# Altium footprint library Connector_PinHeader_2.00mm.PcbLib: 278 footprints (part 16 of 18)
Each footprint in its own frame and in the unit in brackets; x right, y up, seen from the top. Pads: shape width x height; smd on the part's side, far side on the other; paste and mask are expansions set on the pad; w line width, h text height; cw(c..) or ccw(c..) is an arc to the next point about the centre after c.
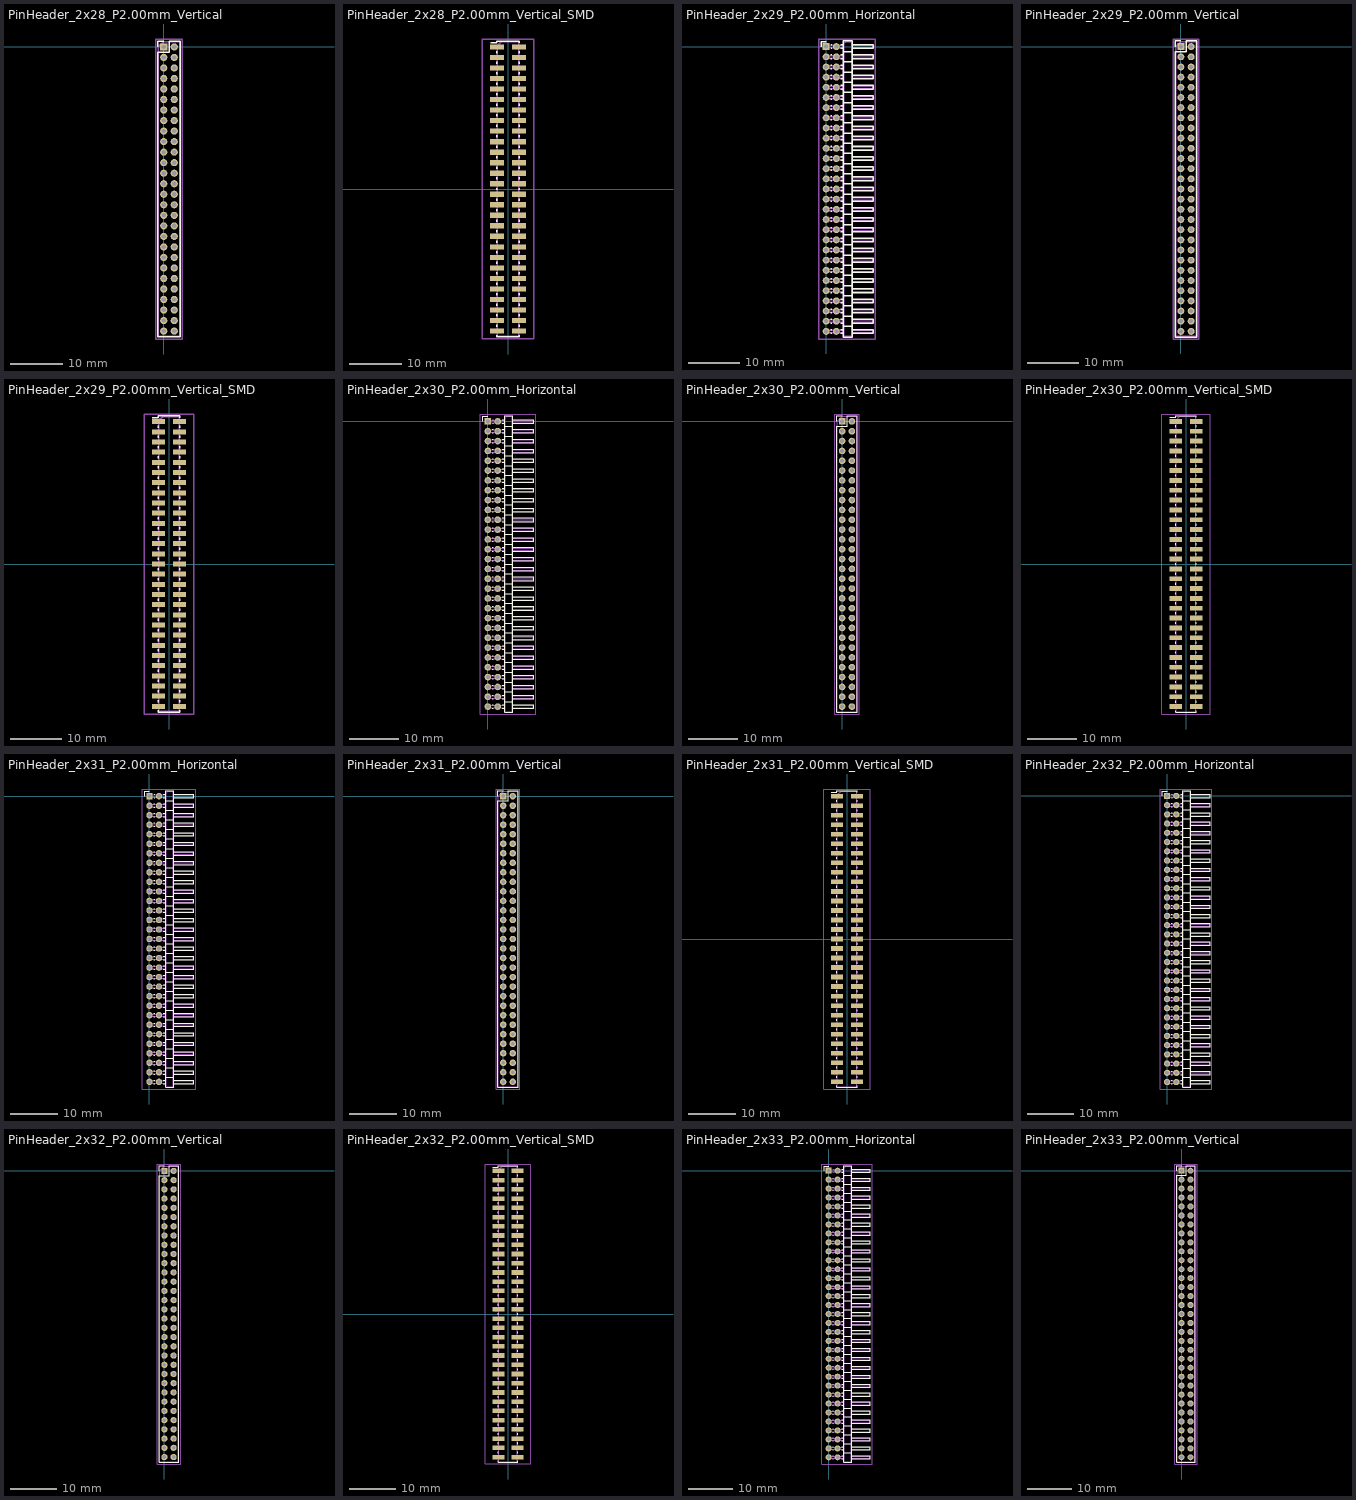
[diagram p15: the footprints below, top view; thin cyan lines are the x and y axes]

## PinHeader_2x28_P2.00mm_Vertical [mm]
pads (56):
  rect 1.35x1.35 hole 0.8: 1(0,0)
  round 1.35 hole 0.8: 2(2,0) 3(0,-2) 4(2,-2) 5(0,-4) 6(2,-4) 7(0,-6) 8(2,-6) 9(0,-8) 10(2,-8) 11(0,-10) 12(2,-10) 13(0,-12) 14(2,-12) 15(0,-14) 16(2,-14) 17(0,-16) 18(2,-16) 19(0,-18) 20(2,-18) 21(0,-20) 22(2,-20) 23(0,-22) 24(2,-22) 25(0,-24) 26(2,-24) 27(0,-26) 28(2,-26) 29(0,-28) 30(2,-28) 31(0,-30) 32(2,-30) 33(0,-32) 34(2,-32) 35(0,-34) 36(2,-34) 37(0,-36) 38(2,-36) 39(0,-38) 40(2,-38) 41(0,-40) 42(2,-40) 43(0,-42) 44(2,-42) 45(0,-44) 46(2,-44) 47(0,-46) 48(2,-46) 49(0,-48) 50(2,-48) 51(0,-50) 52(2,-50) 53(0,-52) 54(2,-52) 55(0,-54) 56(2,-54)
F.SilkS:
  lines w0.254: -1.11,0 -1.11,1.11 0,1.11 ; -1.11,-55.11 3.11,-55.11 3.11,1.11 1,1.11 1,-1 -1.11,-1 -1.11,-55.11
Top Assembly:
  lines w0.254: -1,-55 3,-55 3,1 0,1 -1,0 -1,-55
  text "'.Designator'" at 1.84,-31.047 h1
Top Courtyard:
  lines w0.254: -1.5,-55.5 3.5,-55.5 3.5,1.5 -1.5,1.5 -1.5,-55.5
Top Designator:
  text ".Designator" at -6.618,-27.508 h1.52

## PinHeader_2x28_P2.00mm_Vertical_SMD [mm]
pads (56):
  rect 2.58x1 smd: 1(-2.085,27) 2(2.085,27) 3(-2.085,25) 4(2.085,25) 5(-2.085,23) 6(2.085,23) 7(-2.085,21) 8(2.085,21) 9(-2.085,19) 10(2.085,19) 11(-2.085,17) 12(2.085,17) 13(-2.085,15) 14(2.085,15) 15(-2.085,13) 16(2.085,13) 17(-2.085,11) 18(2.085,11) 19(-2.085,9) 20(2.085,9) 21(-2.085,7) 22(2.085,7) 23(-2.085,5) 24(2.085,5) 25(-2.085,3) 26(2.085,3) 27(-2.085,1) 28(2.085,1) 29(-2.085,-1) 30(2.085,-1) 31(-2.085,-3) 32(2.085,-3) 33(-2.085,-5) 34(2.085,-5) 35(-2.085,-7) 36(2.085,-7) 37(-2.085,-9) 38(2.085,-9) 39(-2.085,-11) 40(2.085,-11) 41(-2.085,-13) 42(2.085,-13) 43(-2.085,-15) 44(2.085,-15) 45(-2.085,-17) 46(2.085,-17) 47(-2.085,-19) 48(2.085,-19) 49(-2.085,-21) 50(2.085,-21) 51(-2.085,-23) 52(2.085,-23) 53(-2.085,-25) 54(2.085,-25) 55(-2.085,-27) 56(2.085,-27)
F.SilkS:
  lines w0.254: -3.315,27.81 -2.11,27.81 -2.11,28.11 2.11,28.11 2.11,27.81 ; -2.11,-27.81 -2.11,-28.11 2.11,-28.11 2.11,-27.81 ; -2.11,-26.19 -2.11,-25.81 ; -2.11,-24.19 -2.11,-23.81 ; -2.11,-22.19 -2.11,-21.81 ; -2.11,-20.19 -2.11,-19.81 ; -2.11,-18.19 -2.11,-17.81 ; -2.11,-16.19 -2.11,-15.81 ; -2.11,-14.19 -2.11,-13.81 ; -2.11,-12.19 -2.11,-11.81 ; -2.11,-10.19 -2.11,-9.81 ; -2.11,-8.19 -2.11,-7.81 ; -2.11,-6.19 -2.11,-5.81 ; -2.11,-4.19 -2.11,-3.81 ; -2.11,-2.19 -2.11,-1.81 ; -2.11,-0.19 -2.11,0.19 ; -2.11,1.81 -2.11,2.19 ; -2.11,3.81 -2.11,4.19 ; -2.11,5.81 -2.11,6.19 ; -2.11,7.81 -2.11,8.19 ; -2.11,9.81 -2.11,10.19 ; -2.11,11.81 -2.11,12.19 ; -2.11,13.81 -2.11,14.19 ; -2.11,15.81 -2.11,16.19 ; -2.11,17.81 -2.11,18.19 ; -2.11,19.81 -2.11,20.19 ; -2.11,21.81 -2.11,22.19 ; -2.11,23.81 -2.11,24.19 ; -2.11,25.81 -2.11,26.19 ; 2.11,-26.19 2.11,-25.81 ; 2.11,-24.19 2.11,-23.81 ; 2.11,-22.19 2.11,-21.81 ; 2.11,-20.19 2.11,-19.81 ; 2.11,-18.19 2.11,-17.81 ; 2.11,-16.19 2.11,-15.81 ; 2.11,-14.19 2.11,-13.81 ; 2.11,-12.19 2.11,-11.81 ; 2.11,-10.19 2.11,-9.81 ; 2.11,-8.19 2.11,-7.81 ; 2.11,-6.19 2.11,-5.81 ; 2.11,-4.19 2.11,-3.81 ; 2.11,-2.19 2.11,-1.81 ; 2.11,-0.19 2.11,0.19 ; 2.11,1.81 2.11,2.19 ; 2.11,3.81 2.11,4.19 ; 2.11,5.81 2.11,6.19 ; 2.11,7.81 2.11,8.19 ; 2.11,9.81 2.11,10.19 ; 2.11,11.81 2.11,12.19 ; 2.11,13.81 2.11,14.19 ; 2.11,15.81 2.11,16.19 ; 2.11,17.81 2.11,18.19 ; 2.11,19.81 2.11,20.19 ; 2.11,21.81 2.11,22.19 ; 2.11,23.81 2.11,24.19 ; 2.11,25.81 2.11,26.19
Top Assembly:
  drawing of 173 lines, arcs and shapes, not listed
  text "'.Designator'" at 0.84,-4.047 h1
Top Courtyard:
  lines w0.254: -4.88,-28.5 4.88,-28.5 4.88,28.5 -4.88,28.5 -4.88,-28.5
Top Designator:
  text ".Designator" at -7.618,-0.508 h1.52

## PinHeader_2x29_P2.00mm_Horizontal [mm]
pads (58):
  rect 1.35x1.35 hole 0.8: 1(0,0)
  round 1.35 hole 0.8: 2(2,0) 3(0,-2) 4(2,-2) 5(0,-4) 6(2,-4) 7(0,-6) 8(2,-6) 9(0,-8) 10(2,-8) 11(0,-10) 12(2,-10) 13(0,-12) 14(2,-12) 15(0,-14) 16(2,-14) 17(0,-16) 18(2,-16) 19(0,-18) 20(2,-18) 21(0,-20) 22(2,-20) 23(0,-22) 24(2,-22) 25(0,-24) 26(2,-24) 27(0,-26) 28(2,-26) 29(0,-28) 30(2,-28) 31(0,-30) 32(2,-30) 33(0,-32) 34(2,-32) 35(0,-34) 36(2,-34) 37(0,-36) 38(2,-36) 39(0,-38) 40(2,-38) 41(0,-40) 42(2,-40) 43(0,-42) 44(2,-42) 45(0,-44) 46(2,-44) 47(0,-46) 48(2,-46) 49(0,-48) 50(2,-48) 51(0,-50) 52(2,-50) 53(0,-52) 54(2,-52) 55(0,-54) 56(2,-54) 57(0,-56) 58(2,-56)
F.SilkS:
  drawing of 238 lines, arcs and shapes, not listed
Top Assembly:
  drawing of 179 lines, arcs and shapes, not listed
  text "'.Designator'" at 5.006,-31.642 h0.9
Top Courtyard:
  lines w0.254: -1.5,-57.5 9.7,-57.5 9.7,1.5 -1.5,1.5 -1.5,-57.5
Top Designator:
  text ".Designator" at -3.518,-28.508 h1.52

## PinHeader_2x29_P2.00mm_Vertical [mm]
pads (58):
  rect 1.35x1.35 hole 0.8: 1(0,0)
  round 1.35 hole 0.8: 2(2,0) 3(0,-2) 4(2,-2) 5(0,-4) 6(2,-4) 7(0,-6) 8(2,-6) 9(0,-8) 10(2,-8) 11(0,-10) 12(2,-10) 13(0,-12) 14(2,-12) 15(0,-14) 16(2,-14) 17(0,-16) 18(2,-16) 19(0,-18) 20(2,-18) 21(0,-20) 22(2,-20) 23(0,-22) 24(2,-22) 25(0,-24) 26(2,-24) 27(0,-26) 28(2,-26) 29(0,-28) 30(2,-28) 31(0,-30) 32(2,-30) 33(0,-32) 34(2,-32) 35(0,-34) 36(2,-34) 37(0,-36) 38(2,-36) 39(0,-38) 40(2,-38) 41(0,-40) 42(2,-40) 43(0,-42) 44(2,-42) 45(0,-44) 46(2,-44) 47(0,-46) 48(2,-46) 49(0,-48) 50(2,-48) 51(0,-50) 52(2,-50) 53(0,-52) 54(2,-52) 55(0,-54) 56(2,-54) 57(0,-56) 58(2,-56)
F.SilkS:
  lines w0.254: -1.11,0 -1.11,1.11 0,1.11 ; -1.11,-57.11 3.11,-57.11 3.11,1.11 1,1.11 1,-1 -1.11,-1 -1.11,-57.11
Top Assembly:
  lines w0.254: -1,-57 3,-57 3,1 0,1 -1,0 -1,-57
  text "'.Designator'" at 1.84,-32.047 h1
Top Courtyard:
  lines w0.254: -1.5,-57.5 3.5,-57.5 3.5,1.5 -1.5,1.5 -1.5,-57.5
Top Designator:
  text ".Designator" at -6.618,-28.508 h1.52

## PinHeader_2x29_P2.00mm_Vertical_SMD [mm]
pads (58):
  rect 2.58x1 smd: 1(-2.085,28) 2(2.085,28) 3(-2.085,26) 4(2.085,26) 5(-2.085,24) 6(2.085,24) 7(-2.085,22) 8(2.085,22) 9(-2.085,20) 10(2.085,20) 11(-2.085,18) 12(2.085,18) 13(-2.085,16) 14(2.085,16) 15(-2.085,14) 16(2.085,14) 17(-2.085,12) 18(2.085,12) 19(-2.085,10) 20(2.085,10) 21(-2.085,8) 22(2.085,8) 23(-2.085,6) 24(2.085,6) 25(-2.085,4) 26(2.085,4) 27(-2.085,2) 28(2.085,2) 29(-2.085,0) 30(2.085,0) 31(-2.085,-2) 32(2.085,-2) 33(-2.085,-4) 34(2.085,-4) 35(-2.085,-6) 36(2.085,-6) 37(-2.085,-8) 38(2.085,-8) 39(-2.085,-10) 40(2.085,-10) 41(-2.085,-12) 42(2.085,-12) 43(-2.085,-14) 44(2.085,-14) 45(-2.085,-16) 46(2.085,-16) 47(-2.085,-18) 48(2.085,-18) 49(-2.085,-20) 50(2.085,-20) 51(-2.085,-22) 52(2.085,-22) 53(-2.085,-24) 54(2.085,-24) 55(-2.085,-26) 56(2.085,-26) 57(-2.085,-28) 58(2.085,-28)
F.SilkS:
  lines w0.254: -3.315,28.81 -2.11,28.81 -2.11,29.11 2.11,29.11 2.11,28.81 ; -2.11,-28.81 -2.11,-29.11 2.11,-29.11 2.11,-28.81 ; -2.11,-27.19 -2.11,-26.81 ; -2.11,-25.19 -2.11,-24.81 ; -2.11,-23.19 -2.11,-22.81 ; -2.11,-21.19 -2.11,-20.81 ; -2.11,-19.19 -2.11,-18.81 ; -2.11,-17.19 -2.11,-16.81 ; -2.11,-15.19 -2.11,-14.81 ; -2.11,-13.19 -2.11,-12.81 ; -2.11,-11.19 -2.11,-10.81 ; -2.11,-9.19 -2.11,-8.81 ; -2.11,-7.19 -2.11,-6.81 ; -2.11,-5.19 -2.11,-4.81 ; -2.11,-3.19 -2.11,-2.81 ; -2.11,-1.19 -2.11,-0.81 ; -2.11,0.81 -2.11,1.19 ; -2.11,2.81 -2.11,3.19 ; -2.11,4.81 -2.11,5.19 ; -2.11,6.81 -2.11,7.19 ; -2.11,8.81 -2.11,9.19 ; -2.11,10.81 -2.11,11.19 ; -2.11,12.81 -2.11,13.19 ; -2.11,14.81 -2.11,15.19 ; -2.11,16.81 -2.11,17.19 ; -2.11,18.81 -2.11,19.19 ; -2.11,20.81 -2.11,21.19 ; -2.11,22.81 -2.11,23.19 ; -2.11,24.81 -2.11,25.19 ; -2.11,26.81 -2.11,27.19 ; 2.11,-27.19 2.11,-26.81 ; 2.11,-25.19 2.11,-24.81 ; 2.11,-23.19 2.11,-22.81 ; 2.11,-21.19 2.11,-20.81 ; 2.11,-19.19 2.11,-18.81 ; 2.11,-17.19 2.11,-16.81 ; 2.11,-15.19 2.11,-14.81 ; 2.11,-13.19 2.11,-12.81 ; 2.11,-11.19 2.11,-10.81 ; 2.11,-9.19 2.11,-8.81 ; 2.11,-7.19 2.11,-6.81 ; 2.11,-5.19 2.11,-4.81 ; 2.11,-3.19 2.11,-2.81 ; 2.11,-1.19 2.11,-0.81 ; 2.11,0.81 2.11,1.19 ; 2.11,2.81 2.11,3.19 ; 2.11,4.81 2.11,5.19 ; 2.11,6.81 2.11,7.19 ; 2.11,8.81 2.11,9.19 ; 2.11,10.81 2.11,11.19 ; 2.11,12.81 2.11,13.19 ; 2.11,14.81 2.11,15.19 ; 2.11,16.81 2.11,17.19 ; 2.11,18.81 2.11,19.19 ; 2.11,20.81 2.11,21.19 ; 2.11,22.81 2.11,23.19 ; 2.11,24.81 2.11,25.19 ; 2.11,26.81 2.11,27.19
Top Assembly:
  drawing of 179 lines, arcs and shapes, not listed
  text "'.Designator'" at 0.84,-4.047 h1
Top Courtyard:
  lines w0.254: -4.88,-29.5 4.88,-29.5 4.88,29.5 -4.88,29.5 -4.88,-29.5
Top Designator:
  text ".Designator" at -7.618,-0.508 h1.52

## PinHeader_2x30_P2.00mm_Horizontal [mm]
pads (60):
  rect 1.35x1.35 hole 0.8: 1(0,0)
  round 1.35 hole 0.8: 2(2,0) 3(0,-2) 4(2,-2) 5(0,-4) 6(2,-4) 7(0,-6) 8(2,-6) 9(0,-8) 10(2,-8) 11(0,-10) 12(2,-10) 13(0,-12) 14(2,-12) 15(0,-14) 16(2,-14) 17(0,-16) 18(2,-16) 19(0,-18) 20(2,-18) 21(0,-20) 22(2,-20) 23(0,-22) 24(2,-22) 25(0,-24) 26(2,-24) 27(0,-26) 28(2,-26) 29(0,-28) 30(2,-28) 31(0,-30) 32(2,-30) 33(0,-32) 34(2,-32) 35(0,-34) 36(2,-34) 37(0,-36) 38(2,-36) 39(0,-38) 40(2,-38) 41(0,-40) 42(2,-40) 43(0,-42) 44(2,-42) 45(0,-44) 46(2,-44) 47(0,-46) 48(2,-46) 49(0,-48) 50(2,-48) 51(0,-50) 52(2,-50) 53(0,-52) 54(2,-52) 55(0,-54) 56(2,-54) 57(0,-56) 58(2,-56) 59(0,-58) 60(2,-58)
F.SilkS:
  drawing of 246 lines, arcs and shapes, not listed
Top Assembly:
  drawing of 185 lines, arcs and shapes, not listed
  text "'.Designator'" at 5.006,-32.642 h0.9
Top Courtyard:
  lines w0.254: -1.5,-59.5 9.7,-59.5 9.7,1.5 -1.5,1.5 -1.5,-59.5
Top Designator:
  text ".Designator" at -3.518,-29.508 h1.52

## PinHeader_2x30_P2.00mm_Vertical [mm]
pads (60):
  rect 1.35x1.35 hole 0.8: 1(0,0)
  round 1.35 hole 0.8: 2(2,0) 3(0,-2) 4(2,-2) 5(0,-4) 6(2,-4) 7(0,-6) 8(2,-6) 9(0,-8) 10(2,-8) 11(0,-10) 12(2,-10) 13(0,-12) 14(2,-12) 15(0,-14) 16(2,-14) 17(0,-16) 18(2,-16) 19(0,-18) 20(2,-18) 21(0,-20) 22(2,-20) 23(0,-22) 24(2,-22) 25(0,-24) 26(2,-24) 27(0,-26) 28(2,-26) 29(0,-28) 30(2,-28) 31(0,-30) 32(2,-30) 33(0,-32) 34(2,-32) 35(0,-34) 36(2,-34) 37(0,-36) 38(2,-36) 39(0,-38) 40(2,-38) 41(0,-40) 42(2,-40) 43(0,-42) 44(2,-42) 45(0,-44) 46(2,-44) 47(0,-46) 48(2,-46) 49(0,-48) 50(2,-48) 51(0,-50) 52(2,-50) 53(0,-52) 54(2,-52) 55(0,-54) 56(2,-54) 57(0,-56) 58(2,-56) 59(0,-58) 60(2,-58)
F.SilkS:
  lines w0.254: -1.11,0 -1.11,1.11 0,1.11 ; -1.11,-59.11 3.11,-59.11 3.11,1.11 1,1.11 1,-1 -1.11,-1 -1.11,-59.11
Top Assembly:
  lines w0.254: -1,-59 3,-59 3,1 0,1 -1,0 -1,-59
  text "'.Designator'" at 1.84,-33.047 h1
Top Courtyard:
  lines w0.254: -1.5,-59.5 3.5,-59.5 3.5,1.5 -1.5,1.5 -1.5,-59.5
Top Designator:
  text ".Designator" at -6.618,-29.508 h1.52

## PinHeader_2x30_P2.00mm_Vertical_SMD [mm]
pads (60):
  rect 2.58x1 smd: 1(-2.085,29) 2(2.085,29) 3(-2.085,27) 4(2.085,27) 5(-2.085,25) 6(2.085,25) 7(-2.085,23) 8(2.085,23) 9(-2.085,21) 10(2.085,21) 11(-2.085,19) 12(2.085,19) 13(-2.085,17) 14(2.085,17) 15(-2.085,15) 16(2.085,15) 17(-2.085,13) 18(2.085,13) 19(-2.085,11) 20(2.085,11) 21(-2.085,9) 22(2.085,9) 23(-2.085,7) 24(2.085,7) 25(-2.085,5) 26(2.085,5) 27(-2.085,3) 28(2.085,3) 29(-2.085,1) 30(2.085,1) 31(-2.085,-1) 32(2.085,-1) 33(-2.085,-3) 34(2.085,-3) 35(-2.085,-5) 36(2.085,-5) 37(-2.085,-7) 38(2.085,-7) 39(-2.085,-9) 40(2.085,-9) 41(-2.085,-11) 42(2.085,-11) 43(-2.085,-13) 44(2.085,-13) 45(-2.085,-15) 46(2.085,-15) 47(-2.085,-17) 48(2.085,-17) 49(-2.085,-19) 50(2.085,-19) 51(-2.085,-21) 52(2.085,-21) 53(-2.085,-23) 54(2.085,-23) 55(-2.085,-25) 56(2.085,-25) 57(-2.085,-27) 58(2.085,-27) 59(-2.085,-29) 60(2.085,-29)
F.SilkS:
  lines w0.254: -3.315,29.81 -2.11,29.81 -2.11,30.11 2.11,30.11 2.11,29.81 ; -2.11,-29.81 -2.11,-30.11 2.11,-30.11 2.11,-29.81 ; -2.11,-28.19 -2.11,-27.81 ; -2.11,-26.19 -2.11,-25.81 ; -2.11,-24.19 -2.11,-23.81 ; -2.11,-22.19 -2.11,-21.81 ; -2.11,-20.19 -2.11,-19.81 ; -2.11,-18.19 -2.11,-17.81 ; -2.11,-16.19 -2.11,-15.81 ; -2.11,-14.19 -2.11,-13.81 ; -2.11,-12.19 -2.11,-11.81 ; -2.11,-10.19 -2.11,-9.81 ; -2.11,-8.19 -2.11,-7.81 ; -2.11,-6.19 -2.11,-5.81 ; -2.11,-4.19 -2.11,-3.81 ; -2.11,-2.19 -2.11,-1.81 ; -2.11,-0.19 -2.11,0.19 ; -2.11,1.81 -2.11,2.19 ; -2.11,3.81 -2.11,4.19 ; -2.11,5.81 -2.11,6.19 ; -2.11,7.81 -2.11,8.19 ; -2.11,9.81 -2.11,10.19 ; -2.11,11.81 -2.11,12.19 ; -2.11,13.81 -2.11,14.19 ; -2.11,15.81 -2.11,16.19 ; -2.11,17.81 -2.11,18.19 ; -2.11,19.81 -2.11,20.19 ; -2.11,21.81 -2.11,22.19 ; -2.11,23.81 -2.11,24.19 ; -2.11,25.81 -2.11,26.19 ; -2.11,27.81 -2.11,28.19 ; 2.11,-28.19 2.11,-27.81 ; 2.11,-26.19 2.11,-25.81 ; 2.11,-24.19 2.11,-23.81 ; 2.11,-22.19 2.11,-21.81 ; 2.11,-20.19 2.11,-19.81 ; 2.11,-18.19 2.11,-17.81 ; 2.11,-16.19 2.11,-15.81 ; 2.11,-14.19 2.11,-13.81 ; 2.11,-12.19 2.11,-11.81 ; 2.11,-10.19 2.11,-9.81 ; 2.11,-8.19 2.11,-7.81 ; 2.11,-6.19 2.11,-5.81 ; 2.11,-4.19 2.11,-3.81 ; 2.11,-2.19 2.11,-1.81 ; 2.11,-0.19 2.11,0.19 ; 2.11,1.81 2.11,2.19 ; 2.11,3.81 2.11,4.19 ; 2.11,5.81 2.11,6.19 ; 2.11,7.81 2.11,8.19 ; 2.11,9.81 2.11,10.19 ; 2.11,11.81 2.11,12.19 ; 2.11,13.81 2.11,14.19 ; 2.11,15.81 2.11,16.19 ; 2.11,17.81 2.11,18.19 ; 2.11,19.81 2.11,20.19 ; 2.11,21.81 2.11,22.19 ; 2.11,23.81 2.11,24.19 ; 2.11,25.81 2.11,26.19 ; 2.11,27.81 2.11,28.19
Top Assembly:
  drawing of 185 lines, arcs and shapes, not listed
  text "'.Designator'" at 0.84,-4.047 h1
Top Courtyard:
  lines w0.254: -4.88,-30.5 4.88,-30.5 4.88,30.5 -4.88,30.5 -4.88,-30.5
Top Designator:
  text ".Designator" at -7.618,-0.508 h1.52

## PinHeader_2x31_P2.00mm_Horizontal [mm]
pads (62):
  rect 1.35x1.35 hole 0.8: 1(0,0)
  round 1.35 hole 0.8: 2(2,0) 3(0,-2) 4(2,-2) 5(0,-4) 6(2,-4) 7(0,-6) 8(2,-6) 9(0,-8) 10(2,-8) 11(0,-10) 12(2,-10) 13(0,-12) 14(2,-12) 15(0,-14) 16(2,-14) 17(0,-16) 18(2,-16) 19(0,-18) 20(2,-18) 21(0,-20) 22(2,-20) 23(0,-22) 24(2,-22) 25(0,-24) 26(2,-24) 27(0,-26) 28(2,-26) 29(0,-28) 30(2,-28) 31(0,-30) 32(2,-30) 33(0,-32) 34(2,-32) 35(0,-34) 36(2,-34) 37(0,-36) 38(2,-36) 39(0,-38) 40(2,-38) 41(0,-40) 42(2,-40) 43(0,-42) 44(2,-42) 45(0,-44) 46(2,-44) 47(0,-46) 48(2,-46) 49(0,-48) 50(2,-48) 51(0,-50) 52(2,-50) 53(0,-52) 54(2,-52) 55(0,-54) 56(2,-54) 57(0,-56) 58(2,-56) 59(0,-58) 60(2,-58) 61(0,-60) 62(2,-60)
F.SilkS:
  drawing of 254 lines, arcs and shapes, not listed
Top Assembly:
  drawing of 191 lines, arcs and shapes, not listed
  text "'.Designator'" at 5.006,-33.642 h0.9
Top Courtyard:
  lines w0.254: -1.5,-61.5 9.7,-61.5 9.7,1.5 -1.5,1.5 -1.5,-61.5
Top Designator:
  text ".Designator" at -3.518,-30.508 h1.52

## PinHeader_2x31_P2.00mm_Vertical [mm]
pads (62):
  rect 1.35x1.35 hole 0.8: 1(0,0)
  round 1.35 hole 0.8: 2(2,0) 3(0,-2) 4(2,-2) 5(0,-4) 6(2,-4) 7(0,-6) 8(2,-6) 9(0,-8) 10(2,-8) 11(0,-10) 12(2,-10) 13(0,-12) 14(2,-12) 15(0,-14) 16(2,-14) 17(0,-16) 18(2,-16) 19(0,-18) 20(2,-18) 21(0,-20) 22(2,-20) 23(0,-22) 24(2,-22) 25(0,-24) 26(2,-24) 27(0,-26) 28(2,-26) 29(0,-28) 30(2,-28) 31(0,-30) 32(2,-30) 33(0,-32) 34(2,-32) 35(0,-34) 36(2,-34) 37(0,-36) 38(2,-36) 39(0,-38) 40(2,-38) 41(0,-40) 42(2,-40) 43(0,-42) 44(2,-42) 45(0,-44) 46(2,-44) 47(0,-46) 48(2,-46) 49(0,-48) 50(2,-48) 51(0,-50) 52(2,-50) 53(0,-52) 54(2,-52) 55(0,-54) 56(2,-54) 57(0,-56) 58(2,-56) 59(0,-58) 60(2,-58) 61(0,-60) 62(2,-60)
F.SilkS:
  lines w0.254: -1.11,0 -1.11,1.11 0,1.11 ; -1.11,-61.11 3.11,-61.11 3.11,1.11 1,1.11 1,-1 -1.11,-1 -1.11,-61.11
Top Assembly:
  lines w0.254: -1,-61 3,-61 3,1 0,1 -1,0 -1,-61
  text "'.Designator'" at 1.84,-34.047 h1
Top Courtyard:
  lines w0.254: -1.5,-61.5 3.5,-61.5 3.5,1.5 -1.5,1.5 -1.5,-61.5
Top Designator:
  text ".Designator" at -6.618,-30.508 h1.52

## PinHeader_2x31_P2.00mm_Vertical_SMD [mm]
pads (62):
  rect 2.58x1 smd: 1(-2.085,30) 2(2.085,30) 3(-2.085,28) 4(2.085,28) 5(-2.085,26) 6(2.085,26) 7(-2.085,24) 8(2.085,24) 9(-2.085,22) 10(2.085,22) 11(-2.085,20) 12(2.085,20) 13(-2.085,18) 14(2.085,18) 15(-2.085,16) 16(2.085,16) 17(-2.085,14) 18(2.085,14) 19(-2.085,12) 20(2.085,12) 21(-2.085,10) 22(2.085,10) 23(-2.085,8) 24(2.085,8) 25(-2.085,6) 26(2.085,6) 27(-2.085,4) 28(2.085,4) 29(-2.085,2) 30(2.085,2) 31(-2.085,0) 32(2.085,0) 33(-2.085,-2) 34(2.085,-2) 35(-2.085,-4) 36(2.085,-4) 37(-2.085,-6) 38(2.085,-6) 39(-2.085,-8) 40(2.085,-8) 41(-2.085,-10) 42(2.085,-10) 43(-2.085,-12) 44(2.085,-12) 45(-2.085,-14) 46(2.085,-14) 47(-2.085,-16) 48(2.085,-16) 49(-2.085,-18) 50(2.085,-18) 51(-2.085,-20) 52(2.085,-20) 53(-2.085,-22) 54(2.085,-22) 55(-2.085,-24) 56(2.085,-24) 57(-2.085,-26) 58(2.085,-26) 59(-2.085,-28) 60(2.085,-28) 61(-2.085,-30) 62(2.085,-30)
F.SilkS:
  lines w0.254: -3.315,30.81 -2.11,30.81 -2.11,31.11 2.11,31.11 2.11,30.81 ; -2.11,-30.81 -2.11,-31.11 2.11,-31.11 2.11,-30.81 ; -2.11,-29.19 -2.11,-28.81 ; -2.11,-27.19 -2.11,-26.81 ; -2.11,-25.19 -2.11,-24.81 ; -2.11,-23.19 -2.11,-22.81 ; -2.11,-21.19 -2.11,-20.81 ; -2.11,-19.19 -2.11,-18.81 ; -2.11,-17.19 -2.11,-16.81 ; -2.11,-15.19 -2.11,-14.81 ; -2.11,-13.19 -2.11,-12.81 ; -2.11,-11.19 -2.11,-10.81 ; -2.11,-9.19 -2.11,-8.81 ; -2.11,-7.19 -2.11,-6.81 ; -2.11,-5.19 -2.11,-4.81 ; -2.11,-3.19 -2.11,-2.81 ; -2.11,-1.19 -2.11,-0.81 ; -2.11,0.81 -2.11,1.19 ; -2.11,2.81 -2.11,3.19 ; -2.11,4.81 -2.11,5.19 ; -2.11,6.81 -2.11,7.19 ; -2.11,8.81 -2.11,9.19 ; -2.11,10.81 -2.11,11.19 ; -2.11,12.81 -2.11,13.19 ; -2.11,14.81 -2.11,15.19 ; -2.11,16.81 -2.11,17.19 ; -2.11,18.81 -2.11,19.19 ; -2.11,20.81 -2.11,21.19 ; -2.11,22.81 -2.11,23.19 ; -2.11,24.81 -2.11,25.19 ; -2.11,26.81 -2.11,27.19 ; -2.11,28.81 -2.11,29.19 ; 2.11,-29.19 2.11,-28.81 ; 2.11,-27.19 2.11,-26.81 ; 2.11,-25.19 2.11,-24.81 ; 2.11,-23.19 2.11,-22.81 ; 2.11,-21.19 2.11,-20.81 ; 2.11,-19.19 2.11,-18.81 ; 2.11,-17.19 2.11,-16.81 ; 2.11,-15.19 2.11,-14.81 ; 2.11,-13.19 2.11,-12.81 ; 2.11,-11.19 2.11,-10.81 ; 2.11,-9.19 2.11,-8.81 ; 2.11,-7.19 2.11,-6.81 ; 2.11,-5.19 2.11,-4.81 ; 2.11,-3.19 2.11,-2.81 ; 2.11,-1.19 2.11,-0.81 ; 2.11,0.81 2.11,1.19 ; 2.11,2.81 2.11,3.19 ; 2.11,4.81 2.11,5.19 ; 2.11,6.81 2.11,7.19 ; 2.11,8.81 2.11,9.19 ; 2.11,10.81 2.11,11.19 ; 2.11,12.81 2.11,13.19 ; 2.11,14.81 2.11,15.19 ; 2.11,16.81 2.11,17.19 ; 2.11,18.81 2.11,19.19 ; 2.11,20.81 2.11,21.19 ; 2.11,22.81 2.11,23.19 ; 2.11,24.81 2.11,25.19 ; 2.11,26.81 2.11,27.19 ; 2.11,28.81 2.11,29.19
Top Assembly:
  drawing of 191 lines, arcs and shapes, not listed
  text "'.Designator'" at 0.84,-4.047 h1
Top Courtyard:
  lines w0.254: -4.88,-31.5 4.88,-31.5 4.88,31.5 -4.88,31.5 -4.88,-31.5
Top Designator:
  text ".Designator" at -7.618,-0.508 h1.52

## PinHeader_2x32_P2.00mm_Horizontal [mm]
pads (64):
  rect 1.35x1.35 hole 0.8: 1(0,0)
  round 1.35 hole 0.8: 2(2,0) 3(0,-2) 4(2,-2) 5(0,-4) 6(2,-4) 7(0,-6) 8(2,-6) 9(0,-8) 10(2,-8) 11(0,-10) 12(2,-10) 13(0,-12) 14(2,-12) 15(0,-14) 16(2,-14) 17(0,-16) 18(2,-16) 19(0,-18) 20(2,-18) 21(0,-20) 22(2,-20) 23(0,-22) 24(2,-22) 25(0,-24) 26(2,-24) 27(0,-26) 28(2,-26) 29(0,-28) 30(2,-28) 31(0,-30) 32(2,-30) 33(0,-32) 34(2,-32) 35(0,-34) 36(2,-34) 37(0,-36) 38(2,-36) 39(0,-38) 40(2,-38) 41(0,-40) 42(2,-40) 43(0,-42) 44(2,-42) 45(0,-44) 46(2,-44) 47(0,-46) 48(2,-46) 49(0,-48) 50(2,-48) 51(0,-50) 52(2,-50) 53(0,-52) 54(2,-52) 55(0,-54) 56(2,-54) 57(0,-56) 58(2,-56) 59(0,-58) 60(2,-58) 61(0,-60) 62(2,-60) 63(0,-62) 64(2,-62)
F.SilkS:
  drawing of 262 lines, arcs and shapes, not listed
Top Assembly:
  drawing of 197 lines, arcs and shapes, not listed
  text "'.Designator'" at 5.006,-34.642 h0.9
Top Courtyard:
  lines w0.254: -1.5,-63.5 9.7,-63.5 9.7,1.5 -1.5,1.5 -1.5,-63.5
Top Designator:
  text ".Designator" at -3.518,-31.508 h1.52

## PinHeader_2x32_P2.00mm_Vertical [mm]
pads (64):
  rect 1.35x1.35 hole 0.8: 1(0,0)
  round 1.35 hole 0.8: 2(2,0) 3(0,-2) 4(2,-2) 5(0,-4) 6(2,-4) 7(0,-6) 8(2,-6) 9(0,-8) 10(2,-8) 11(0,-10) 12(2,-10) 13(0,-12) 14(2,-12) 15(0,-14) 16(2,-14) 17(0,-16) 18(2,-16) 19(0,-18) 20(2,-18) 21(0,-20) 22(2,-20) 23(0,-22) 24(2,-22) 25(0,-24) 26(2,-24) 27(0,-26) 28(2,-26) 29(0,-28) 30(2,-28) 31(0,-30) 32(2,-30) 33(0,-32) 34(2,-32) 35(0,-34) 36(2,-34) 37(0,-36) 38(2,-36) 39(0,-38) 40(2,-38) 41(0,-40) 42(2,-40) 43(0,-42) 44(2,-42) 45(0,-44) 46(2,-44) 47(0,-46) 48(2,-46) 49(0,-48) 50(2,-48) 51(0,-50) 52(2,-50) 53(0,-52) 54(2,-52) 55(0,-54) 56(2,-54) 57(0,-56) 58(2,-56) 59(0,-58) 60(2,-58) 61(0,-60) 62(2,-60) 63(0,-62) 64(2,-62)
F.SilkS:
  lines w0.254: -1.11,0 -1.11,1.11 0,1.11 ; -1.11,-63.11 3.11,-63.11 3.11,1.11 1,1.11 1,-1 -1.11,-1 -1.11,-63.11
Top Assembly:
  lines w0.254: -1,-63 3,-63 3,1 0,1 -1,0 -1,-63
  text "'.Designator'" at 1.84,-35.047 h1
Top Courtyard:
  lines w0.254: -1.5,-63.5 3.5,-63.5 3.5,1.5 -1.5,1.5 -1.5,-63.5
Top Designator:
  text ".Designator" at -6.618,-31.508 h1.52

## PinHeader_2x32_P2.00mm_Vertical_SMD [mm]
pads (64):
  rect 2.58x1 smd: 1(-2.085,31) 2(2.085,31) 3(-2.085,29) 4(2.085,29) 5(-2.085,27) 6(2.085,27) 7(-2.085,25) 8(2.085,25) 9(-2.085,23) 10(2.085,23) 11(-2.085,21) 12(2.085,21) 13(-2.085,19) 14(2.085,19) 15(-2.085,17) 16(2.085,17) 17(-2.085,15) 18(2.085,15) 19(-2.085,13) 20(2.085,13) 21(-2.085,11) 22(2.085,11) 23(-2.085,9) 24(2.085,9) 25(-2.085,7) 26(2.085,7) 27(-2.085,5) 28(2.085,5) 29(-2.085,3) 30(2.085,3) 31(-2.085,1) 32(2.085,1) 33(-2.085,-1) 34(2.085,-1) 35(-2.085,-3) 36(2.085,-3) 37(-2.085,-5) 38(2.085,-5) 39(-2.085,-7) 40(2.085,-7) 41(-2.085,-9) 42(2.085,-9) 43(-2.085,-11) 44(2.085,-11) 45(-2.085,-13) 46(2.085,-13) 47(-2.085,-15) 48(2.085,-15) 49(-2.085,-17) 50(2.085,-17) 51(-2.085,-19) 52(2.085,-19) 53(-2.085,-21) 54(2.085,-21) 55(-2.085,-23) 56(2.085,-23) 57(-2.085,-25) 58(2.085,-25) 59(-2.085,-27) 60(2.085,-27) 61(-2.085,-29) 62(2.085,-29) 63(-2.085,-31) 64(2.085,-31)
F.SilkS:
  lines w0.254: -3.315,31.81 -2.11,31.81 -2.11,32.11 2.11,32.11 2.11,31.81 ; -2.11,-31.81 -2.11,-32.11 2.11,-32.11 2.11,-31.81 ; -2.11,-30.19 -2.11,-29.81 ; -2.11,-28.19 -2.11,-27.81 ; -2.11,-26.19 -2.11,-25.81 ; -2.11,-24.19 -2.11,-23.81 ; -2.11,-22.19 -2.11,-21.81 ; -2.11,-20.19 -2.11,-19.81 ; -2.11,-18.19 -2.11,-17.81 ; -2.11,-16.19 -2.11,-15.81 ; -2.11,-14.19 -2.11,-13.81 ; -2.11,-12.19 -2.11,-11.81 ; -2.11,-10.19 -2.11,-9.81 ; -2.11,-8.19 -2.11,-7.81 ; -2.11,-6.19 -2.11,-5.81 ; -2.11,-4.19 -2.11,-3.81 ; -2.11,-2.19 -2.11,-1.81 ; -2.11,-0.19 -2.11,0.19 ; -2.11,1.81 -2.11,2.19 ; -2.11,3.81 -2.11,4.19 ; -2.11,5.81 -2.11,6.19 ; -2.11,7.81 -2.11,8.19 ; -2.11,9.81 -2.11,10.19 ; -2.11,11.81 -2.11,12.19 ; -2.11,13.81 -2.11,14.19 ; -2.11,15.81 -2.11,16.19 ; -2.11,17.81 -2.11,18.19 ; -2.11,19.81 -2.11,20.19 ; -2.11,21.81 -2.11,22.19 ; -2.11,23.81 -2.11,24.19 ; -2.11,25.81 -2.11,26.19 ; -2.11,27.81 -2.11,28.19 ; -2.11,29.81 -2.11,30.19 ; 2.11,-30.19 2.11,-29.81 ; 2.11,-28.19 2.11,-27.81 ; 2.11,-26.19 2.11,-25.81 ; 2.11,-24.19 2.11,-23.81 ; 2.11,-22.19 2.11,-21.81 ; 2.11,-20.19 2.11,-19.81 ; 2.11,-18.19 2.11,-17.81 ; 2.11,-16.19 2.11,-15.81 ; 2.11,-14.19 2.11,-13.81 ; 2.11,-12.19 2.11,-11.81 ; 2.11,-10.19 2.11,-9.81 ; 2.11,-8.19 2.11,-7.81 ; 2.11,-6.19 2.11,-5.81 ; 2.11,-4.19 2.11,-3.81 ; 2.11,-2.19 2.11,-1.81 ; 2.11,-0.19 2.11,0.19 ; 2.11,1.81 2.11,2.19 ; 2.11,3.81 2.11,4.19 ; 2.11,5.81 2.11,6.19 ; 2.11,7.81 2.11,8.19 ; 2.11,9.81 2.11,10.19 ; 2.11,11.81 2.11,12.19 ; 2.11,13.81 2.11,14.19 ; 2.11,15.81 2.11,16.19 ; 2.11,17.81 2.11,18.19 ; 2.11,19.81 2.11,20.19 ; 2.11,21.81 2.11,22.19 ; 2.11,23.81 2.11,24.19 ; 2.11,25.81 2.11,26.19 ; 2.11,27.81 2.11,28.19 ; 2.11,29.81 2.11,30.19
Top Assembly:
  drawing of 197 lines, arcs and shapes, not listed
  text "'.Designator'" at 0.84,-4.047 h1
Top Courtyard:
  lines w0.254: -4.88,-32.5 4.88,-32.5 4.88,32.5 -4.88,32.5 -4.88,-32.5
Top Designator:
  text ".Designator" at -7.618,-0.508 h1.52

## PinHeader_2x33_P2.00mm_Horizontal [mm]
pads (66):
  rect 1.35x1.35 hole 0.8: 1(0,0)
  round 1.35 hole 0.8: 2(2,0) 3(0,-2) 4(2,-2) 5(0,-4) 6(2,-4) 7(0,-6) 8(2,-6) 9(0,-8) 10(2,-8) 11(0,-10) 12(2,-10) 13(0,-12) 14(2,-12) 15(0,-14) 16(2,-14) 17(0,-16) 18(2,-16) 19(0,-18) 20(2,-18) 21(0,-20) 22(2,-20) 23(0,-22) 24(2,-22) 25(0,-24) 26(2,-24) 27(0,-26) 28(2,-26) 29(0,-28) 30(2,-28) 31(0,-30) 32(2,-30) 33(0,-32) 34(2,-32) 35(0,-34) 36(2,-34) 37(0,-36) 38(2,-36) 39(0,-38) 40(2,-38) 41(0,-40) 42(2,-40) 43(0,-42) 44(2,-42) 45(0,-44) 46(2,-44) 47(0,-46) 48(2,-46) 49(0,-48) 50(2,-48) 51(0,-50) 52(2,-50) 53(0,-52) 54(2,-52) 55(0,-54) 56(2,-54) 57(0,-56) 58(2,-56) 59(0,-58) 60(2,-58) 61(0,-60) 62(2,-60) 63(0,-62) 64(2,-62) 65(0,-64) 66(2,-64)
F.SilkS:
  drawing of 270 lines, arcs and shapes, not listed
Top Assembly:
  drawing of 203 lines, arcs and shapes, not listed
  text "'.Designator'" at 5.006,-35.642 h0.9
Top Courtyard:
  lines w0.254: -1.5,-65.5 9.7,-65.5 9.7,1.5 -1.5,1.5 -1.5,-65.5
Top Designator:
  text ".Designator" at -3.518,-32.508 h1.52

## PinHeader_2x33_P2.00mm_Vertical [mm]
pads (66):
  rect 1.35x1.35 hole 0.8: 1(0,0)
  round 1.35 hole 0.8: 2(2,0) 3(0,-2) 4(2,-2) 5(0,-4) 6(2,-4) 7(0,-6) 8(2,-6) 9(0,-8) 10(2,-8) 11(0,-10) 12(2,-10) 13(0,-12) 14(2,-12) 15(0,-14) 16(2,-14) 17(0,-16) 18(2,-16) 19(0,-18) 20(2,-18) 21(0,-20) 22(2,-20) 23(0,-22) 24(2,-22) 25(0,-24) 26(2,-24) 27(0,-26) 28(2,-26) 29(0,-28) 30(2,-28) 31(0,-30) 32(2,-30) 33(0,-32) 34(2,-32) 35(0,-34) 36(2,-34) 37(0,-36) 38(2,-36) 39(0,-38) 40(2,-38) 41(0,-40) 42(2,-40) 43(0,-42) 44(2,-42) 45(0,-44) 46(2,-44) 47(0,-46) 48(2,-46) 49(0,-48) 50(2,-48) 51(0,-50) 52(2,-50) 53(0,-52) 54(2,-52) 55(0,-54) 56(2,-54) 57(0,-56) 58(2,-56) 59(0,-58) 60(2,-58) 61(0,-60) 62(2,-60) 63(0,-62) 64(2,-62) 65(0,-64) 66(2,-64)
F.SilkS:
  lines w0.254: -1.11,0 -1.11,1.11 0,1.11 ; -1.11,-65.11 3.11,-65.11 3.11,1.11 1,1.11 1,-1 -1.11,-1 -1.11,-65.11
Top Assembly:
  lines w0.254: -1,-65 3,-65 3,1 0,1 -1,0 -1,-65
  text "'.Designator'" at 1.84,-36.047 h1
Top Courtyard:
  lines w0.254: -1.5,-65.5 3.5,-65.5 3.5,1.5 -1.5,1.5 -1.5,-65.5
Top Designator:
  text ".Designator" at -6.618,-32.508 h1.52